# Altium schematic symbol library 647-25ABPE.SchLib: 1 symbol
Pins are listed as number, name and electrical type; pins without a type are passive.

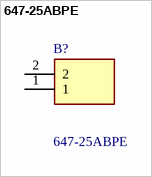
[diagram p0: symbol 647-25ABPE]

## 647-25ABPE
designator B?
Heat Sink TO-220 Aluminum 6.0W @ 25C Board Level, Vertical; Manufacturer_Name: Wakefield Thermal; Geometry.Height: 63.5mm; Mouser Part Number: 567-647-25ABPE; Mouser Price/Stock: https://www.mouser.co.uk/ProductDetail/Wakefield-Thermal/647-25ABPE?qs=1%252ByrAFyf4wEF4vm1j%252Byz0w%3D%3D; Manufacturer_Part_Number: 647-25ABPE; Datasheet Link: https://wakefieldthermal.com/content/data_sheets/647%20%281%29.pdf
footprint 64725ABPE
pins: 1, 2